# Altium integrated library Renesas Reset Monitor.IntLib: 20 symbols
Pins are listed as number, name and electrical type; pins without a type are passive.

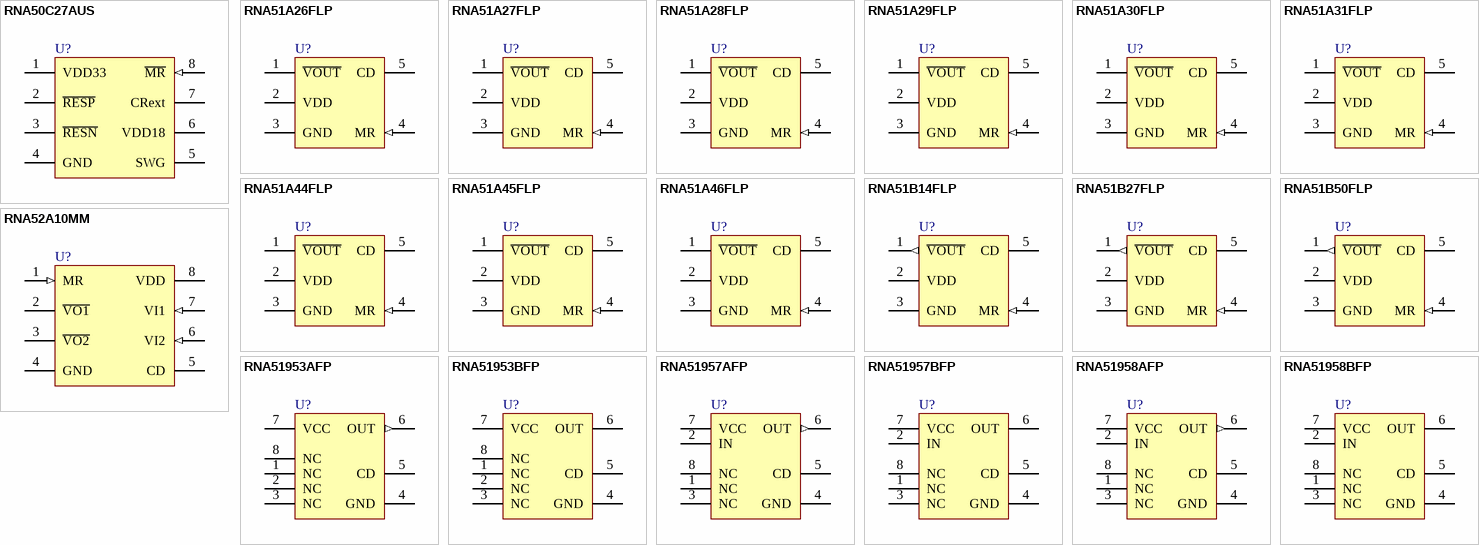
[diagram p0: symbols RNA50C27AUS to RNA51958BFP]

## RNA50C27AUS
designator U?
CMOS System Reset (Low Type), 2.7V Detection Voltage, Dual Power Supply, CMOS/Open-Drain Output, 8-pin SSOP; Published: 5-Feb-2010; DatasheetVersion: Rev.1.00, Apr-2006; PackageVersion: Sep-2005; PackageReference: PVSP0008KA-A; Publisher: Altium Limited; PackageDescription: 8-Pin Plastic Thin Shrink Small Outline Package 0.5 mm Pitch; Code_JEITA: P-VSSOP8-2.3x2-0.50; ComponentLink1Description: Manufacturer Link; ComponentLink1URL: http://sg.renesas.com/fmwk.jsp?cnt=application_specified_reset_ic_root.jsp&fp=/products/standard_ic/general_purpose_linear/detector_reset_ic/application_specified/; ComponentLink2Description: Datasheet; ComponentLink2URL: http://documentation.renesas.com/eng/products/linear/rej03d0834_rna50c27aus.pdf; ComponentLink3Description: Packaging Specification; ComponentLink3URL: http://sg.renesas.com/media/products/common_info/package/pdf/ic/code/pvsp0008ka_a.pdf
footprint PVSP0008KA-A_N (TSSOP, 8-Leads, Body 2x2.3mm, Pitch 0.5mm, IPC Medium Density)
footprint PVSP0008KA-A_L (TSSOP, 8-Leads, Body 2x2.3mm, Pitch 0.5mm, IPC High Density)
footprint PVSP0008KA-A_M (TSSOP, 8-Leads, Body 2x2.3mm, Pitch 0.5mm, IPC Low Density)
pins: 1 VDD33 (power) "Input power supply pin for 3.3-V voltage.", 2 ~{RESP} (oc) "Active-low reset signal output pin.", 3 ~{RESN} (oc) "Active-low reset signal output pin.", 4 GND (power) "GND pin", 5 SWG "External PMOS gate control signal.", 6 VDD18 (power) "Input power supply pin for 1.8-V voltage.", 7 CRext "Connecting pin for Rext resistance and Cext capacity that determine the delay time of reset signal.", 8 ~{MR} (in) "Pin to provide reset manually. MR pin is pulled-up to VDD33 through internal resistor."

## RNA51A26FLP
designator U?
System Reset (Low Type), 2.6V Detection Voltage, Open-Drain Output, 5-pin MPAK-5; Published: 5-Feb-2010; DatasheetVersion: Rev.3.00, Oct-2008; PackageVersion: Jan-2005; PackageReference: PLSP0005ZB-A; Publisher: Altium Limited; PackageDescription: 5-Lead Plastic Small Outline Transistor, 0.95 mm Pitch, 2.8 mm Lead Span; Code_JEITA: SC-74A; Code_IPC: SOT23-5; ComponentLink1Description: Manufacturer Link; ComponentLink1URL: http://sg.renesas.com/fmwk.jsp?cnt=single_function_reset_ic_root.jsp&fp=/products/standard_ic/general_purpose_linear/detector_reset_ic/single_function/; ComponentLink2Description: Datasheet; ComponentLink2URL: http://documentation.renesas.com/eng/products/linear/rej03d0505_rna51xxds.pdf; ComponentLink3Description: Packaging Specification; ComponentLink3URL: http://sg.renesas.com/media/products/common_info/package/pdf/ic/code/plsp0005zb_a.pdf
footprint PLSP0005ZB-A_N (SOT23, 5-Leads, Body 2.95x1.6mm, Pitch 0.95mm, Lead Span 2.7mm, IPC Medium Density)
footprint PLSP0005ZB-A_L (SOT23, 5-Leads, Body 2.95x1.6mm, Pitch 0.95mm, Lead Span 2.7mm, IPC High Density)
footprint PLSP0005ZB-A_M (SOT23, 5-Leads, Body 2.95x1.6mm, Pitch 0.95mm, Lead Span 2.7mm, IPC Low Density)
pins: 1 ~{VOUT} (oc), 2 VDD (power), 3 GND (power), 4 MR (in), 5 CD

## RNA51A27FLP
designator U?
System Reset (Low Type), 2.7V Detection Voltage, Open-Drain Output, 5-pin MPAK-5; Published: 5-Feb-2010; DatasheetVersion: Rev.3.00, Oct-2008; PackageVersion: Jan-2005; PackageReference: PLSP0005ZB-A; Publisher: Altium Limited; PackageDescription: 5-Lead Plastic Small Outline Transistor, 0.95 mm Pitch, 2.8 mm Lead Span; Code_JEITA: SC-74A; Code_IPC: SOT23-5; ComponentLink1Description: Manufacturer Link; ComponentLink1URL: http://sg.renesas.com/fmwk.jsp?cnt=single_function_reset_ic_root.jsp&fp=/products/standard_ic/general_purpose_linear/detector_reset_ic/single_function/; ComponentLink2Description: Datasheet; ComponentLink2URL: http://documentation.renesas.com/eng/products/linear/rej03d0505_rna51xxds.pdf; ComponentLink3Description: Packaging Specification; ComponentLink3URL: http://sg.renesas.com/media/products/common_info/package/pdf/ic/code/plsp0005zb_a.pdf
footprint PLSP0005ZB-A_N (SOT23, 5-Leads, Body 2.95x1.6mm, Pitch 0.95mm, Lead Span 2.7mm, IPC Medium Density)
footprint PLSP0005ZB-A_L (SOT23, 5-Leads, Body 2.95x1.6mm, Pitch 0.95mm, Lead Span 2.7mm, IPC High Density)
footprint PLSP0005ZB-A_M (SOT23, 5-Leads, Body 2.95x1.6mm, Pitch 0.95mm, Lead Span 2.7mm, IPC Low Density)
pins: 1 ~{VOUT} (oc), 2 VDD (power), 3 GND (power), 4 MR (in), 5 CD

## RNA51A28FLP
designator U?
System Reset (Low Type), 2.8V Detection Voltage, Open-Drain Output, 5-pin MPAK-5; Published: 5-Feb-2010; DatasheetVersion: Rev.3.00, Oct-2008; PackageVersion: Jan-2005; PackageReference: PLSP0005ZB-A; Publisher: Altium Limited; PackageDescription: 5-Lead Plastic Small Outline Transistor, 0.95 mm Pitch, 2.8 mm Lead Span; Code_JEITA: SC-74A; Code_IPC: SOT23-5; ComponentLink1Description: Manufacturer Link; ComponentLink1URL: http://sg.renesas.com/fmwk.jsp?cnt=single_function_reset_ic_root.jsp&fp=/products/standard_ic/general_purpose_linear/detector_reset_ic/single_function/; ComponentLink2Description: Datasheet; ComponentLink2URL: http://documentation.renesas.com/eng/products/linear/rej03d0505_rna51xxds.pdf; ComponentLink3Description: Packaging Specification; ComponentLink3URL: http://sg.renesas.com/media/products/common_info/package/pdf/ic/code/plsp0005zb_a.pdf
footprint PLSP0005ZB-A_N (SOT23, 5-Leads, Body 2.95x1.6mm, Pitch 0.95mm, Lead Span 2.7mm, IPC Medium Density)
footprint PLSP0005ZB-A_L (SOT23, 5-Leads, Body 2.95x1.6mm, Pitch 0.95mm, Lead Span 2.7mm, IPC High Density)
footprint PLSP0005ZB-A_M (SOT23, 5-Leads, Body 2.95x1.6mm, Pitch 0.95mm, Lead Span 2.7mm, IPC Low Density)
pins: 1 ~{VOUT} (oc), 2 VDD (power), 3 GND (power), 4 MR (in), 5 CD

## RNA51A29FLP
designator U?
System Reset (Low Type), 2.9V Detection Voltage, Open-Drain Output, 5-pin MPAK-5; Published: 5-Feb-2010; DatasheetVersion: Rev.3.00, Oct-2008; PackageVersion: Jan-2005; PackageReference: PLSP0005ZB-A; Publisher: Altium Limited; PackageDescription: 5-Lead Plastic Small Outline Transistor, 0.95 mm Pitch, 2.8 mm Lead Span; Code_JEITA: SC-74A; Code_IPC: SOT23-5; ComponentLink1Description: Manufacturer Link; ComponentLink1URL: http://sg.renesas.com/fmwk.jsp?cnt=single_function_reset_ic_root.jsp&fp=/products/standard_ic/general_purpose_linear/detector_reset_ic/single_function/; ComponentLink2Description: Datasheet; ComponentLink2URL: http://documentation.renesas.com/eng/products/linear/rej03d0505_rna51xxds.pdf; ComponentLink3Description: Packaging Specification; ComponentLink3URL: http://sg.renesas.com/media/products/common_info/package/pdf/ic/code/plsp0005zb_a.pdf
footprint PLSP0005ZB-A_N (SOT23, 5-Leads, Body 2.95x1.6mm, Pitch 0.95mm, Lead Span 2.7mm, IPC Medium Density)
footprint PLSP0005ZB-A_L (SOT23, 5-Leads, Body 2.95x1.6mm, Pitch 0.95mm, Lead Span 2.7mm, IPC High Density)
footprint PLSP0005ZB-A_M (SOT23, 5-Leads, Body 2.95x1.6mm, Pitch 0.95mm, Lead Span 2.7mm, IPC Low Density)
pins: 1 ~{VOUT} (oc), 2 VDD (power), 3 GND (power), 4 MR (in), 5 CD

## RNA51A30FLP
designator U?
System Reset (Low Type), 3.0V Detection Voltage, Open-Drain Output, 5-pin MPAK-5; Published: 5-Feb-2010; DatasheetVersion: Rev.3.00, Oct-2008; PackageVersion: Jan-2005; PackageReference: PLSP0005ZB-A; Publisher: Altium Limited; PackageDescription: 5-Lead Plastic Small Outline Transistor, 0.95 mm Pitch, 2.8 mm Lead Span; Code_JEITA: SC-74A; Code_IPC: SOT23-5; ComponentLink1Description: Manufacturer Link; ComponentLink1URL: http://sg.renesas.com/fmwk.jsp?cnt=single_function_reset_ic_root.jsp&fp=/products/standard_ic/general_purpose_linear/detector_reset_ic/single_function/; ComponentLink2Description: Datasheet; ComponentLink2URL: http://documentation.renesas.com/eng/products/linear/rej03d0505_rna51xxds.pdf; ComponentLink3Description: Packaging Specification; ComponentLink3URL: http://sg.renesas.com/media/products/common_info/package/pdf/ic/code/plsp0005zb_a.pdf
footprint PLSP0005ZB-A_N (SOT23, 5-Leads, Body 2.95x1.6mm, Pitch 0.95mm, Lead Span 2.7mm, IPC Medium Density)
footprint PLSP0005ZB-A_L (SOT23, 5-Leads, Body 2.95x1.6mm, Pitch 0.95mm, Lead Span 2.7mm, IPC High Density)
footprint PLSP0005ZB-A_M (SOT23, 5-Leads, Body 2.95x1.6mm, Pitch 0.95mm, Lead Span 2.7mm, IPC Low Density)
pins: 1 ~{VOUT} (oc), 2 VDD (power), 3 GND (power), 4 MR (in), 5 CD

## RNA51A31FLP
designator U?
System Reset (Low Type), 3.1V Detection Voltage, Open-Drain Output, 5-pin MPAK-5; Published: 5-Feb-2010; DatasheetVersion: Rev.3.00, Oct-2008; PackageVersion: Jan-2005; PackageReference: PLSP0005ZB-A; Publisher: Altium Limited; PackageDescription: 5-Lead Plastic Small Outline Transistor, 0.95 mm Pitch, 2.8 mm Lead Span; Code_JEITA: SC-74A; Code_IPC: SOT23-5; ComponentLink1Description: Manufacturer Link; ComponentLink1URL: http://sg.renesas.com/fmwk.jsp?cnt=single_function_reset_ic_root.jsp&fp=/products/standard_ic/general_purpose_linear/detector_reset_ic/single_function/; ComponentLink2Description: Datasheet; ComponentLink2URL: http://documentation.renesas.com/eng/products/linear/rej03d0505_rna51xxds.pdf; ComponentLink3Description: Packaging Specification; ComponentLink3URL: http://sg.renesas.com/media/products/common_info/package/pdf/ic/code/plsp0005zb_a.pdf
footprint PLSP0005ZB-A_N (SOT23, 5-Leads, Body 2.95x1.6mm, Pitch 0.95mm, Lead Span 2.7mm, IPC Medium Density)
footprint PLSP0005ZB-A_L (SOT23, 5-Leads, Body 2.95x1.6mm, Pitch 0.95mm, Lead Span 2.7mm, IPC High Density)
footprint PLSP0005ZB-A_M (SOT23, 5-Leads, Body 2.95x1.6mm, Pitch 0.95mm, Lead Span 2.7mm, IPC Low Density)
pins: 1 ~{VOUT} (oc), 2 VDD (power), 3 GND (power), 4 MR (in), 5 CD

## RNA51A44FLP
designator U?
System Reset (Low Type), 4.4V Detection Voltage, Open-Drain Output, 5-pin MPAK-5; Published: 5-Feb-2010; DatasheetVersion: Rev.3.00, Oct-2008; PackageVersion: Jan-2005; PackageReference: PLSP0005ZB-A; Publisher: Altium Limited; PackageDescription: 5-Lead Plastic Small Outline Transistor, 0.95 mm Pitch, 2.8 mm Lead Span; Code_JEITA: SC-74A; Code_IPC: SOT23-5; ComponentLink1Description: Manufacturer Link; ComponentLink1URL: http://sg.renesas.com/fmwk.jsp?cnt=single_function_reset_ic_root.jsp&fp=/products/standard_ic/general_purpose_linear/detector_reset_ic/single_function/; ComponentLink2Description: Datasheet; ComponentLink2URL: http://documentation.renesas.com/eng/products/linear/rej03d0505_rna51xxds.pdf; ComponentLink3Description: Packaging Specification; ComponentLink3URL: http://sg.renesas.com/media/products/common_info/package/pdf/ic/code/plsp0005zb_a.pdf
footprint PLSP0005ZB-A_N (SOT23, 5-Leads, Body 2.95x1.6mm, Pitch 0.95mm, Lead Span 2.7mm, IPC Medium Density)
footprint PLSP0005ZB-A_L (SOT23, 5-Leads, Body 2.95x1.6mm, Pitch 0.95mm, Lead Span 2.7mm, IPC High Density)
footprint PLSP0005ZB-A_M (SOT23, 5-Leads, Body 2.95x1.6mm, Pitch 0.95mm, Lead Span 2.7mm, IPC Low Density)
pins: 1 ~{VOUT} (oc), 2 VDD (power), 3 GND (power), 4 MR (in), 5 CD

## RNA51A45FLP
designator U?
System Reset (Low Type), 4.5V Detection Voltage, Open-Drain Output, 5-pin MPAK-5; Published: 5-Feb-2010; DatasheetVersion: Rev.3.00, Oct-2008; PackageVersion: Jan-2005; PackageReference: PLSP0005ZB-A; Publisher: Altium Limited; PackageDescription: 5-Lead Plastic Small Outline Transistor, 0.95 mm Pitch, 2.8 mm Lead Span; Code_JEITA: SC-74A; Code_IPC: SOT23-5; ComponentLink1Description: Manufacturer Link; ComponentLink1URL: http://sg.renesas.com/fmwk.jsp?cnt=single_function_reset_ic_root.jsp&fp=/products/standard_ic/general_purpose_linear/detector_reset_ic/single_function/; ComponentLink2Description: Datasheet; ComponentLink2URL: http://documentation.renesas.com/eng/products/linear/rej03d0505_rna51xxds.pdf; ComponentLink3Description: Packaging Specification; ComponentLink3URL: http://sg.renesas.com/media/products/common_info/package/pdf/ic/code/plsp0005zb_a.pdf
footprint PLSP0005ZB-A_N (SOT23, 5-Leads, Body 2.95x1.6mm, Pitch 0.95mm, Lead Span 2.7mm, IPC Medium Density)
footprint PLSP0005ZB-A_L (SOT23, 5-Leads, Body 2.95x1.6mm, Pitch 0.95mm, Lead Span 2.7mm, IPC High Density)
footprint PLSP0005ZB-A_M (SOT23, 5-Leads, Body 2.95x1.6mm, Pitch 0.95mm, Lead Span 2.7mm, IPC Low Density)
pins: 1 ~{VOUT} (oc), 2 VDD (power), 3 GND (power), 4 MR (in), 5 CD

## RNA51A46FLP
designator U?
System Reset (Low Type), 4.6V Detection Voltage, Open-Drain Output, 5-pin MPAK-5; Published: 5-Feb-2010; DatasheetVersion: Rev.3.00, Oct-2008; PackageVersion: Jan-2005; PackageReference: PLSP0005ZB-A; Publisher: Altium Limited; PackageDescription: 5-Lead Plastic Small Outline Transistor, 0.95 mm Pitch, 2.8 mm Lead Span; Code_JEITA: SC-74A; Code_IPC: SOT23-5; ComponentLink1Description: Manufacturer Link; ComponentLink1URL: http://sg.renesas.com/fmwk.jsp?cnt=single_function_reset_ic_root.jsp&fp=/products/standard_ic/general_purpose_linear/detector_reset_ic/single_function/; ComponentLink2Description: Datasheet; ComponentLink2URL: http://documentation.renesas.com/eng/products/linear/rej03d0505_rna51xxds.pdf; ComponentLink3Description: Packaging Specification; ComponentLink3URL: http://sg.renesas.com/media/products/common_info/package/pdf/ic/code/plsp0005zb_a.pdf
footprint PLSP0005ZB-A_N (SOT23, 5-Leads, Body 2.95x1.6mm, Pitch 0.95mm, Lead Span 2.7mm, IPC Medium Density)
footprint PLSP0005ZB-A_L (SOT23, 5-Leads, Body 2.95x1.6mm, Pitch 0.95mm, Lead Span 2.7mm, IPC High Density)
footprint PLSP0005ZB-A_M (SOT23, 5-Leads, Body 2.95x1.6mm, Pitch 0.95mm, Lead Span 2.7mm, IPC Low Density)
pins: 1 ~{VOUT} (oc), 2 VDD (power), 3 GND (power), 4 MR (in), 5 CD

## RNA51B14FLP
designator U?
System Reset (Low Type), 1.4V Detection Voltage, CMOS Output, 5-pin MPAK-5; Published: 5-Feb-2010; DatasheetVersion: Rev.3.00, Oct-2008; PackageVersion: Jan-2005; PackageReference: PLSP0005ZB-A; Publisher: Altium Limited; PackageDescription: 5-Lead Plastic Small Outline Transistor, 0.95 mm Pitch, 2.8 mm Lead Span; Code_JEITA: SC-74A; Code_IPC: SOT23-5; ComponentLink1Description: Manufacturer Link; ComponentLink1URL: http://sg.renesas.com/fmwk.jsp?cnt=single_function_reset_ic_root.jsp&fp=/products/standard_ic/general_purpose_linear/detector_reset_ic/single_function/; ComponentLink2Description: Datasheet; ComponentLink2URL: http://documentation.renesas.com/eng/products/linear/rej03d0505_rna51xxds.pdf; ComponentLink3Description: Packaging Specification; ComponentLink3URL: http://sg.renesas.com/media/products/common_info/package/pdf/ic/code/plsp0005zb_a.pdf
footprint PLSP0005ZB-A_N (SOT23, 5-Leads, Body 2.95x1.6mm, Pitch 0.95mm, Lead Span 2.7mm, IPC Medium Density)
footprint PLSP0005ZB-A_L (SOT23, 5-Leads, Body 2.95x1.6mm, Pitch 0.95mm, Lead Span 2.7mm, IPC High Density)
footprint PLSP0005ZB-A_M (SOT23, 5-Leads, Body 2.95x1.6mm, Pitch 0.95mm, Lead Span 2.7mm, IPC Low Density)
pins: 1 ~{VOUT} (out), 2 VDD (power), 3 GND (power), 4 MR (in), 5 CD

## RNA51B27FLP
designator U?
System Reset (Low Type), 2.7V Detection Voltage, CMOS Output, 5-pin MPAK-5; Published: 5-Feb-2010; DatasheetVersion: Rev.3.00, Oct-2008; PackageVersion: Jan-2005; PackageReference: PLSP0005ZB-A; Publisher: Altium Limited; PackageDescription: 5-Lead Plastic Small Outline Transistor, 0.95 mm Pitch, 2.8 mm Lead Span; Code_JEITA: SC-74A; Code_IPC: SOT23-5; ComponentLink1Description: Manufacturer Link; ComponentLink1URL: http://sg.renesas.com/fmwk.jsp?cnt=single_function_reset_ic_root.jsp&fp=/products/standard_ic/general_purpose_linear/detector_reset_ic/single_function/; ComponentLink2Description: Datasheet; ComponentLink2URL: http://documentation.renesas.com/eng/products/linear/rej03d0505_rna51xxds.pdf; ComponentLink3Description: Packaging Specification; ComponentLink3URL: http://sg.renesas.com/media/products/common_info/package/pdf/ic/code/plsp0005zb_a.pdf
footprint PLSP0005ZB-A_N (SOT23, 5-Leads, Body 2.95x1.6mm, Pitch 0.95mm, Lead Span 2.7mm, IPC Medium Density)
footprint PLSP0005ZB-A_L (SOT23, 5-Leads, Body 2.95x1.6mm, Pitch 0.95mm, Lead Span 2.7mm, IPC High Density)
footprint PLSP0005ZB-A_M (SOT23, 5-Leads, Body 2.95x1.6mm, Pitch 0.95mm, Lead Span 2.7mm, IPC Low Density)
pins: 1 ~{VOUT} (out), 2 VDD (power), 3 GND (power), 4 MR (in), 5 CD

## RNA51B50FLP
designator U?
System Reset (Low Type), 5.0V Detection Voltage, CMOS Output, 5-pin MPAK-5; Published: 5-Feb-2010; DatasheetVersion: Rev.3.00, Oct-2008; PackageVersion: Jan-2005; PackageReference: PLSP0005ZB-A; Publisher: Altium Limited; PackageDescription: 5-Lead Plastic Small Outline Transistor, 0.95 mm Pitch, 2.8 mm Lead Span; Code_JEITA: SC-74A; Code_IPC: SOT23-5; ComponentLink1Description: Manufacturer Link; ComponentLink1URL: http://sg.renesas.com/fmwk.jsp?cnt=single_function_reset_ic_root.jsp&fp=/products/standard_ic/general_purpose_linear/detector_reset_ic/single_function/; ComponentLink2Description: Datasheet; ComponentLink2URL: http://documentation.renesas.com/eng/products/linear/rej03d0505_rna51xxds.pdf; ComponentLink3Description: Packaging Specification; ComponentLink3URL: http://sg.renesas.com/media/products/common_info/package/pdf/ic/code/plsp0005zb_a.pdf
footprint PLSP0005ZB-A_N (SOT23, 5-Leads, Body 2.95x1.6mm, Pitch 0.95mm, Lead Span 2.7mm, IPC Medium Density)
footprint PLSP0005ZB-A_L (SOT23, 5-Leads, Body 2.95x1.6mm, Pitch 0.95mm, Lead Span 2.7mm, IPC High Density)
footprint PLSP0005ZB-A_M (SOT23, 5-Leads, Body 2.95x1.6mm, Pitch 0.95mm, Lead Span 2.7mm, IPC Low Density)
pins: 1 ~{VOUT} (out), 2 VDD (power), 3 GND (power), 4 MR (in), 5 CD

## RNA52A10MM
designator U?
Dual CMOS System Reset (Low Type), 1.0V Detection Voltage, Open-Drain Output, 8-pin MMPAK; Published: 5-Feb-2010; DatasheetVersion: Rev.5.00, Oct-2008; PackageVersion: 2008; PackageReference: PLSP0008JC-A; Publisher: Altium Limited; PackageDescription: 8-Pin Plastic Thin Small Outline Package 0.65 mm Pitch (MMPAK-8); Code_JEITA: P-LSOP8-2.8x2.95-0.65; ComponentLink1Description: Manufacturer Link; ComponentLink1URL: http://sg.renesas.com/fmwk.jsp?cnt=application_specified_reset_ic_root.jsp&fp=/products/standard_ic/general_purpose_linear/detector_reset_ic/application_specified/; ComponentLink2Description: Datasheet; ComponentLink2URL: http://documentation.renesas.com/eng/products/linear/rej03d0858_rna52a10mmds.pdf
footprint PLSP0008JC-A_N (TSOP, 8-Leads, Body 2.95x2.8mm, Pitch 0.65mm, IPC Medium Density)
footprint PLSP0008JC-A_L (TSOP, 8-Leads, Body 2.95x2.8mm, Pitch 0.65mm, IPC High Density)
footprint PLSP0008JC-A_M (TSOP, 8-Leads, Body 2.95x2.8mm, Pitch 0.65mm, IPC Low Density)
pins: 1 MR (in), 2 ~{VO1} (oc), 3 ~{VO2} (oc), 4 GND (power), 5 CD, 6 VI2 (in), 7 VI1 (in), 8 VDD (power)

## RNA51953AFP
designator U?
System Reset (Low Type), 4.25V Detection Voltage, Fixed Current load Output, 8-pin SOP; Published: 5-Feb-2010; DatasheetVersion: Rev.2.00, Mar-2009; PackageVersion: May-2007; PackageReference: PRSP0008DE-C; Publisher: Altium Limited; PackageDescription: 8-Pin Plastic Small Outline Package 1.27 mm Pitch; Code_JEITA: P-SOP8-4.4x4.85-1.27; ComponentLink1Description: Manufacturer Link; ComponentLink1URL: http://sg.renesas.com/fmwk.jsp?cnt=single_function_reset_ic_root.jsp&fp=/products/standard_ic/general_purpose_linear/detector_reset_ic/single_function/; ComponentLink2Description: Datasheet; ComponentLink2URL: http://documentation.renesas.com/eng/products/linear/rej03d0911_rna51953ads.pdf; ComponentLink3Description: Packaging Specification; ComponentLink3URL: http://sg.renesas.com/media/products/common_info/package/pdf/ic/code/prsp0008de_c.pdf
footprint PRSP0008DE-C_N (SOP, 8-Leads, Body 4.85x4.4mm, Pitch 1.27mm, IPC Medium Density)
footprint PRSP0008DE-C_L (SOP, 8-Leads, Body 4.85x4.4mm, Pitch 1.27mm, IPC High Density)
footprint PRSP0008DE-C_M (SOP, 8-Leads, Body 4.85x4.4mm, Pitch 1.27mm, IPC Low Density)
pins: 1 NC, 2 NC, 3 NC, 4 GND (power), 5 CD, 6 OUT (out), 7 VCC (power), 8 NC

## RNA51953BFP
designator U?
System Reset (Low Type), 4.25V Detection Voltage, Open-Collector Output, 8-pin SOP; Published: 5-Feb-2010; DatasheetVersion: Rev.2.00, Mar-2009; PackageVersion: May-2007; PackageReference: PRSP0008DE-C; Publisher: Altium Limited; PackageDescription: 8-Pin Plastic Small Outline Package 1.27 mm Pitch; Code_JEITA: P-SOP8-4.4x4.85-1.27; ComponentLink1Description: Manufacturer Link; ComponentLink1URL: http://sg.renesas.com/fmwk.jsp?cnt=single_function_reset_ic_root.jsp&fp=/products/standard_ic/general_purpose_linear/detector_reset_ic/single_function/; ComponentLink2Description: Datasheet; ComponentLink2URL: http://documentation.renesas.com/eng/products/linear/rej03d0911_rna51953ads.pdf; ComponentLink3Description: Packaging Specification; ComponentLink3URL: http://sg.renesas.com/media/products/common_info/package/pdf/ic/code/prsp0008de_c.pdf
footprint PRSP0008DE-C_N (SOP, 8-Leads, Body 4.85x4.4mm, Pitch 1.27mm, IPC Medium Density)
footprint PRSP0008DE-C_L (SOP, 8-Leads, Body 4.85x4.4mm, Pitch 1.27mm, IPC High Density)
footprint PRSP0008DE-C_M (SOP, 8-Leads, Body 4.85x4.4mm, Pitch 1.27mm, IPC Low Density)
pins: 1 NC, 2 NC, 3 NC, 4 GND (power), 5 CD, 6 OUT (oc), 7 VCC (power), 8 NC

## RNA51957AFP
designator U?
System Reset (Low Type), 1.25V Detection Voltage, Fixed Current load Output, 8-pin SOP; Published: 5-Feb-2010; DatasheetVersion: Rev.2.00, Mar-2009; PackageVersion: May-2007; PackageReference: PRSP0008DE-C; Publisher: Altium Limited; PackageDescription: 8-Pin Plastic Small Outline Package 1.27 mm Pitch; Code_JEITA: P-SOP8-4.4x4.85-1.27; ComponentLink1Description: Manufacturer Link; ComponentLink1URL: http://sg.renesas.com/fmwk.jsp?cnt=single_function_reset_ic_root.jsp&fp=/products/standard_ic/general_purpose_linear/detector_reset_ic/single_function/; ComponentLink2Description: Datasheet; ComponentLink2URL: http://documentation.renesas.com/eng/products/linear/rej03d0912_rna51957ads.pdf; ComponentLink3Description: Packaging Specification; ComponentLink3URL: http://sg.renesas.com/media/products/common_info/package/pdf/ic/code/prsp0008de_c.pdf
footprint PRSP0008DE-C_N (SOP, 8-Leads, Body 4.85x4.4mm, Pitch 1.27mm, IPC Medium Density)
footprint PRSP0008DE-C_L (SOP, 8-Leads, Body 4.85x4.4mm, Pitch 1.27mm, IPC High Density)
footprint PRSP0008DE-C_M (SOP, 8-Leads, Body 4.85x4.4mm, Pitch 1.27mm, IPC Low Density)
pins: 1 NC, 2 IN (power), 3 NC, 4 GND (power), 5 CD, 6 OUT (out), 7 VCC (power), 8 NC

## RNA51957BFP
designator U?
System Reset (Low Type), 1.25V Detection Voltage, Open-Collector Output, 8-pin SOP; Published: 5-Feb-2010; DatasheetVersion: Rev.2.00, Mar-2009; PackageVersion: May-2007; PackageReference: PRSP0008DE-C; Publisher: Altium Limited; PackageDescription: 8-Pin Plastic Small Outline Package 1.27 mm Pitch; Code_JEITA: P-SOP8-4.4x4.85-1.27; ComponentLink1Description: Manufacturer Link; ComponentLink1URL: http://sg.renesas.com/fmwk.jsp?cnt=single_function_reset_ic_root.jsp&fp=/products/standard_ic/general_purpose_linear/detector_reset_ic/single_function/; ComponentLink2Description: Datasheet; ComponentLink2URL: http://documentation.renesas.com/eng/products/linear/rej03d0912_rna51957ads.pdf; ComponentLink3Description: Packaging Specification; ComponentLink3URL: http://sg.renesas.com/media/products/common_info/package/pdf/ic/code/prsp0008de_c.pdf
footprint PRSP0008DE-C_N (SOP, 8-Leads, Body 4.85x4.4mm, Pitch 1.27mm, IPC Medium Density)
footprint PRSP0008DE-C_L (SOP, 8-Leads, Body 4.85x4.4mm, Pitch 1.27mm, IPC High Density)
footprint PRSP0008DE-C_M (SOP, 8-Leads, Body 4.85x4.4mm, Pitch 1.27mm, IPC Low Density)
pins: 1 NC, 2 IN (power), 3 NC, 4 GND (power), 5 CD, 6 OUT (oc), 7 VCC (power), 8 NC

## RNA51958AFP
designator U?
System Reset (High Type), 1.25V Detection Voltage, Fixed Current load Output, 8-pin SOP; Published: 5-Feb-2010; DatasheetVersion: Rev.1.00, Mar-2009; PackageVersion: May-2007; PackageReference: PRSP0008DE-C; Publisher: Altium Limited; PackageDescription: 8-Pin Plastic Small Outline Package 1.27 mm Pitch; Code_JEITA: P-SOP8-4.4x4.85-1.27; ComponentLink1Description: Manufacturer Link; ComponentLink1URL: http://sg.renesas.com/fmwk.jsp?cnt=single_function_reset_ic_root.jsp&fp=/products/standard_ic/general_purpose_linear/detector_reset_ic/single_function/; ComponentLink2Description: Datasheet; ComponentLink2URL: http://documentation.renesas.com/eng/products/linear/rej03d0915_rna51958ads.pdf; ComponentLink3Description: Packaging Specification; ComponentLink3URL: http://sg.renesas.com/media/products/common_info/package/pdf/ic/code/prsp0008de_c.pdf
footprint PRSP0008DE-C_N (SOP, 8-Leads, Body 4.85x4.4mm, Pitch 1.27mm, IPC Medium Density)
footprint PRSP0008DE-C_L (SOP, 8-Leads, Body 4.85x4.4mm, Pitch 1.27mm, IPC High Density)
footprint PRSP0008DE-C_M (SOP, 8-Leads, Body 4.85x4.4mm, Pitch 1.27mm, IPC Low Density)
pins: 1 NC, 2 IN (power), 3 NC, 4 GND (power), 5 CD, 6 OUT (out), 7 VCC (power), 8 NC

## RNA51958BFP
designator U?
System Reset (High Type), 1.25V Detection Voltage, Open-Collector Output, 8-pin SOP; Published: 5-Feb-2010; DatasheetVersion: Rev.1.00, Mar-2009; PackageVersion: May-2007; PackageReference: PRSP0008DE-C; Publisher: Altium Limited; PackageDescription: 8-Pin Plastic Small Outline Package 1.27 mm Pitch; Code_JEITA: P-SOP8-4.4x4.85-1.27; ComponentLink1Description: Manufacturer Link; ComponentLink1URL: http://sg.renesas.com/fmwk.jsp?cnt=single_function_reset_ic_root.jsp&fp=/products/standard_ic/general_purpose_linear/detector_reset_ic/single_function/; ComponentLink2Description: Datasheet; ComponentLink2URL: http://documentation.renesas.com/eng/products/linear/rej03d0915_rna51958ads.pdf; ComponentLink3Description: Packaging Specification; ComponentLink3URL: http://sg.renesas.com/media/products/common_info/package/pdf/ic/code/prsp0008de_c.pdf
footprint PRSP0008DE-C_N (SOP, 8-Leads, Body 4.85x4.4mm, Pitch 1.27mm, IPC Medium Density)
footprint PRSP0008DE-C_L (SOP, 8-Leads, Body 4.85x4.4mm, Pitch 1.27mm, IPC High Density)
footprint PRSP0008DE-C_M (SOP, 8-Leads, Body 4.85x4.4mm, Pitch 1.27mm, IPC Low Density)
pins: 1 NC, 2 IN (power), 3 NC, 4 GND (power), 5 CD, 6 OUT (oc), 7 VCC (power), 8 NC